# Altium schematic symbol library Mylib.SchLib: 94 symbols
Pins are listed as number, name and electrical type; pins without a type are passive.

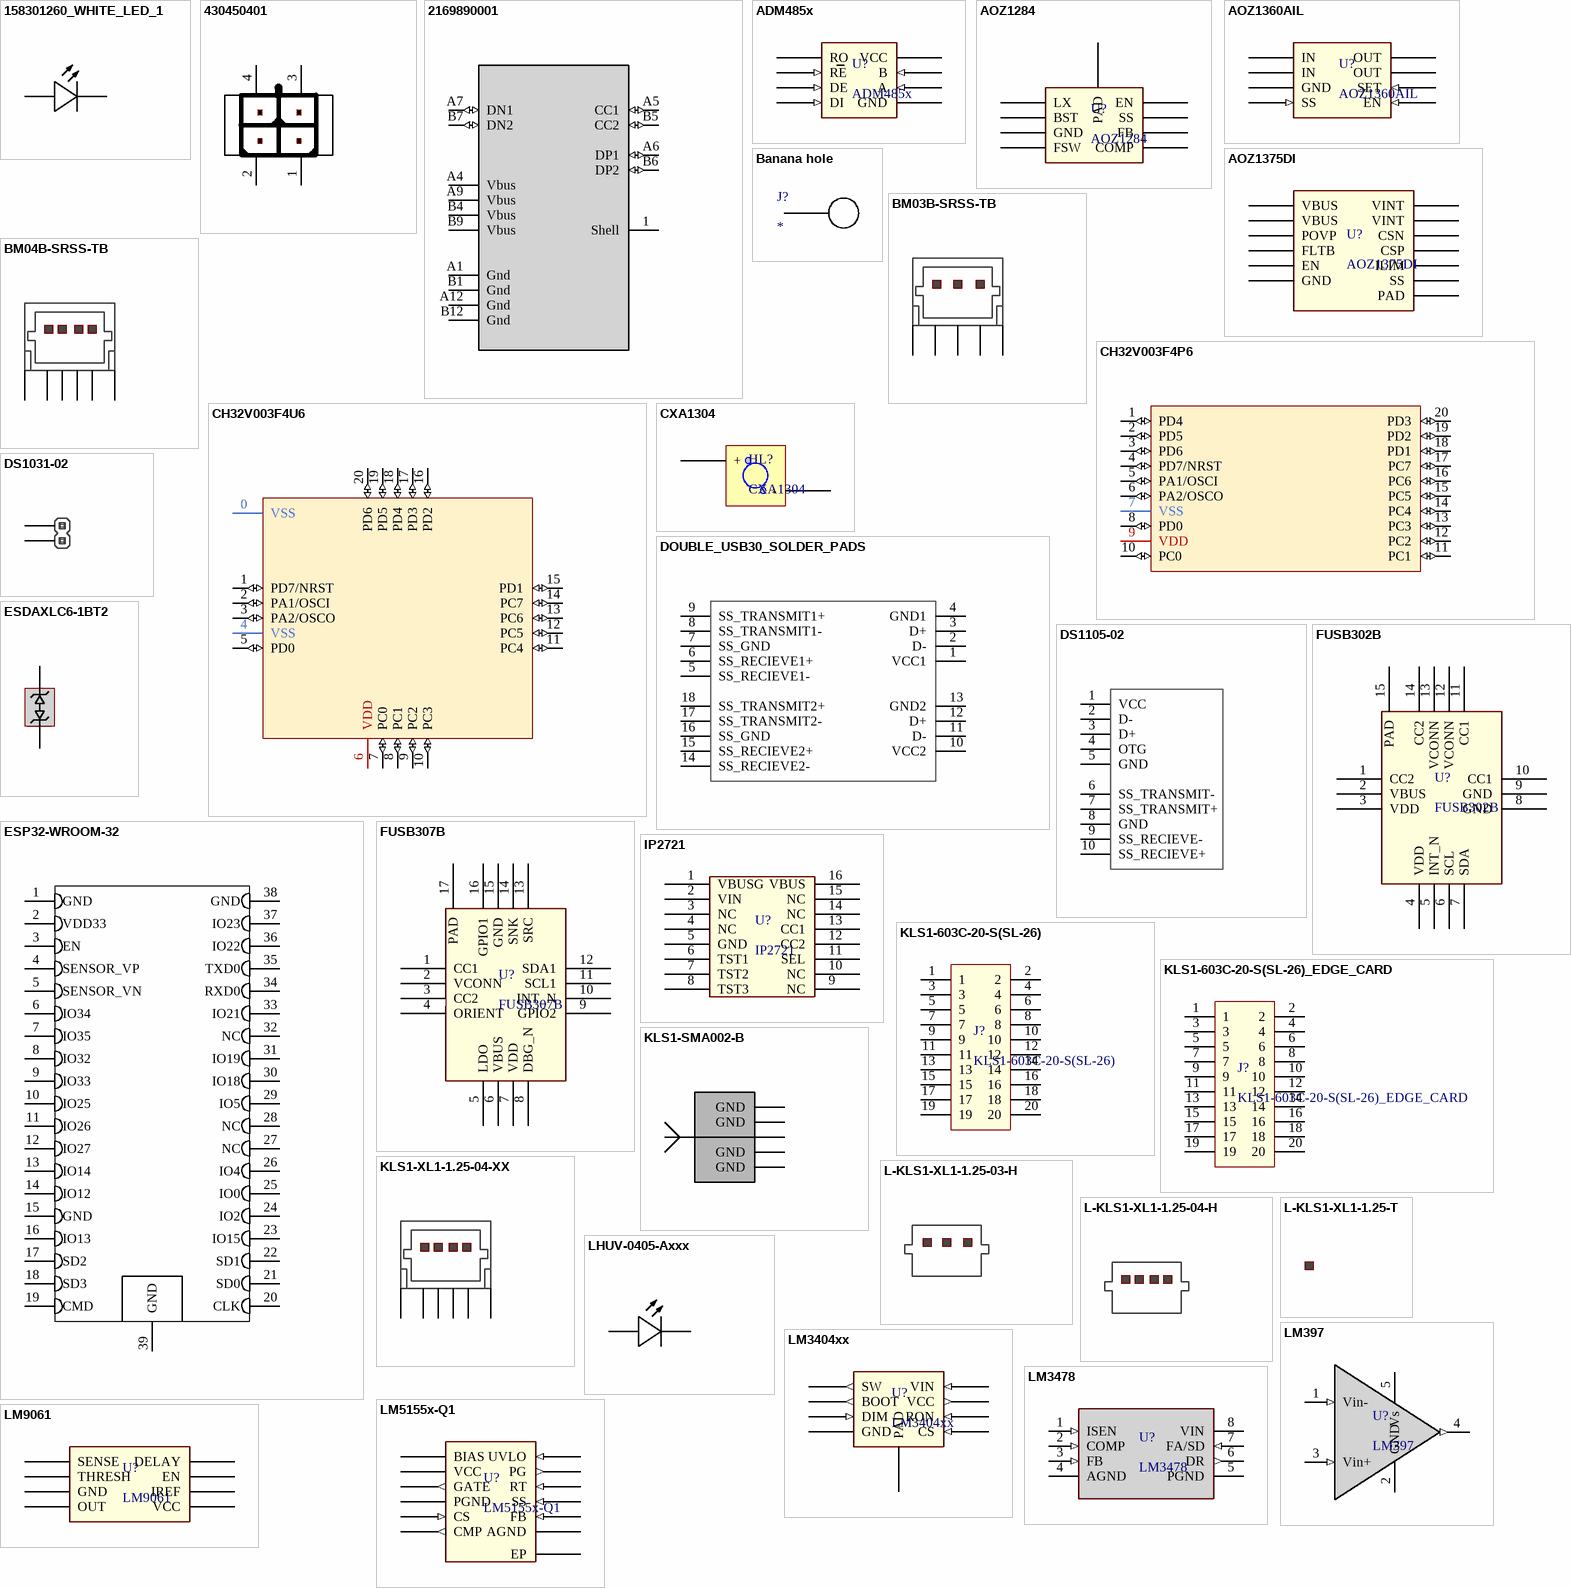
[diagram p0: symbols 158301260_WHITE_LED_1 to LM9061]

## 158301260_WHITE_LED_1
designator D?, comment 158301260
WL-SWTP SMT White Top view PLCC
footprint 158301260
pins: 1, 2

## 430450401
designator J?
Micro-Fit 3.0 Right-Angle Header, 3.00mm Pitch, Dual Row, 4 Circuits, with Snap-in
footprint 430450401
pins: 1, 2, 3, 4

## 2169890001
designator J?
footprint 216989-0001_MOL
pins: 1 Shell (power), A1 Gnd, A4 Vbus (power), A5 CC1 (io), A6 DP1 (io), A7 DN1 (io), A9 Vbus (power), A12 Gnd, B1 Gnd, B4 Vbus (power), B5 CC2 (io), B6 DP2 (io), B7 DN2 (io), B9 Vbus (power), B12 Gnd

## ADM485x
designator U?
RS-485 interface
footprint SOIC8(3.9) (SOIC, 8-Leads, Body 5,0x4,0mm (max), Pitch 1,27mm, IPC Medium Density)
pins: 1 RO (oc), 2 RE (in), 3 DE (in), 4 DI (in), 5 GND, 6 A (in), 7 B (in), 8 VCC (power)

## AOZ1284
designator U?
4A Simple Buck Regulator
footprint SO8_TermPad
pins: 1 LX, 2 BST, 3 GND, 4 FSW, 5 COMP, 6 FB, 7 SS, 8 EN, 9 PAD

## AOZ1360AIL
designator U?
28V Programmable Current-Limited Load Switch
footprint SO8
pins: 1 IN (power), 2 IN (power), 3 GND (power), 4 SS (in), 5 EN (in), 6 SET (in), 7 OUT (power), 8 OUT (power)

## AOZ1375DI
designator U?
23V 18mΩ Bidirectional Load Switch / with Over-Voltage and Over-Current Protection
footprint DFN3x3-12L
pins: 1 VBUS, 2 VBUS, 3 POVP, 4 FLTB, 5 EN, 6 GND, 7 SS, 8 ILIM, 9 CSP, 10 CSN, 11 VINT, 12 VINT, 13 PAD

## Banana hole
designator J?
Hole for banana conn 2 mm
footprint Banana hole (Hole for Banana conn 2mm)
pins: 1 0

## BM03B-SRSS-TB
designator J?
1mm pitch Disconnectable  Crimp style connectors
footprint BM03B-SRSS-TB
pins: 1, 2, 3, 4, 5

## BM04B-SRSS-TB
designator J?
1mm pitch Disconnectable  Crimp style connectors
footprint BM04B-SRSS-TB
pins: 1, 2, 3, 4, 5, 6

## CH32V003F4P6
designator U?
32-bit RISCV mcu
footprint TSSOP20 (TSSOP, 20-Leads, Body 6,50x4,40mm, Pitch 0,65mm, IPC Medium Density)
pins: 1 PD4 (io), 2 PD5 (io), 3 PD6 (io), 4 PD7/NRST (io), 5 PA1/OSCI (io), 6 PA2/OSCO (io), 7 VSS (power), 8 PD0 (io), 9 VDD (power), 10 PC0 (io), 11 PC1 (io), 12 PC2 (io), 13 PC3 (io), 14 PC4 (io), 15 PC5 (io), 16 PC6 (io), 17 PC7 (io), 18 PD1 (io), 19 PD2 (io), 20 PD3 (io)

## CH32V003F4U6
designator U?
32-bit RISCV mcu qfn
footprint QFN20_3x3
pins: 0 VSS (power), 1 PD7/NRST (io), 2 PA1/OSCI (io), 3 PA2/OSCO (io), 4 VSS (power), 5 PD0 (io), 6 VDD (power), 7 PC0 (io), 8 PC1 (io), 9 PC2 (io), 10 PC3 (io), 11 PC4 (io), 12 PC5 (io), 13 PC6 (io), 14 PC7 (io), 15 PD1 (io), 16 PD2 (io), 17 PD3 (io), 18 PD4 (io), 19 PD5 (io), 20 PD6 (io)

## CXA1304
designator HL?
China powerfull led
footprint CXA1512
pins: 1 + (power), 2 - (power)

## DOUBLE_USB30_SOLDER_PADS
designator J?
footprint DOUBLE_USB30_SOLDER_PADS
pins: 1 VCC1, 2 D-, 3 D+, 4 GND1, 5 SS_RECIEVE1-, 6 SS_RECIEVE1+, 7 SS_GND, 8 SS_TRANSMIT1-, 9 SS_TRANSMIT1+, 10 VCC2, 11 D-, 12 D+, 13 GND2, 14 SS_RECIEVE2-, 15 SS_RECIEVE2+, 16 SS_GND, 17 SS_TRANSMIT2-, 18 SS_TRANSMIT2+

## DS1031-02
designator U?
pls 1.27
footprint 1.27 HOLES - 2
pins: 1, 2

## DS1105-02
designator J?
footprint DS1105-02
pins: 1 VCC, 2 D-, 3 D+, 4 OTG, 5 GND, 6 SS_TRANSMIT-, 7 SS_TRANSMIT+, 8 GND, 9 SS_RECIEVE-, 10 SS_RECIEVE+

## ESDAXLC6-1BT2
designator ZD?
Single-line bidirectional ESD protection for high speed interface
footprint SOD882T (0402)
pins: 1 CATHODE, 2 CATHODE

## ESP32-WROOM-32
designator U?
ESP32-WROVER is a powerful, generic Wi-Fi + Bluetooth + Bluetooth LE MCU module that targets a wide / variety of applications, ranging from low-power sensor networks to the most demanding tasks, such as voice / encoding, music streaming and MP3 decoding.
footprint ESP32­WROVER
pins: 1 GND, 2 VDD33, 3 EN, 4 SENSOR_VP, 5 SENSOR_VN, 6 IO34, 7 IO35, 8 IO32, 9 IO33, 10 IO25, 11 IO26, 12 IO27, 13 IO14, 14 IO12, 15 GND, 16 IO13, 17 SD2, 18 SD3, 19 CMD, 20 CLK, 21 SD0, 22 SD1, 23 IO15, 24 IO2, 25 IO0, 26 IO4, 27 NC, 28 NC, 29 IO5, 30 IO18, 31 IO19, 32 NC, 33 IO21, 34 RXD0, 35 TXD0, 36 IO22, 37 IO23, 38 GND, 39 GND

## FUSB302B
designator U?
Ptogrammable USB Type-C Controller w/PD
footprint 14 lead MLP
pins: 1 CC2, 2 VBUS, 3 VDD, 4 VDD, 5 INT_N, 6 SCL, 7 SDA, 8 GND, 9 GND, 10 CC1, 11 CC1, 12 VCONN, 13 VCONN, 14 CC2, 15 PAD

## FUSB307B
designator U?
USB Type-C Port Controller / with USB-PD
footprint QFN16
pins: 1 CC1, 2 VCONN, 3 CC2, 4 ORIENT, 5 LDO, 6 VBUS, 7 VDD, 8 DBG_N, 9 GPIO2, 10 INT_N, 11 SCL1, 12 SDA1, 13 SRC, 14 SNK, 15 GND, 16 GPIO1, 17 PAD

## IP2721
designator U?
TYPEC/PD2.0/PD3.0 Physical Layer IC for USB TYPEC input Interfaces
footprint TSSOP16 (TSSOP, 16-Leads, Body 5,00x4,40mm, Pitch 0,65mm, IPC Medium Density)
pins: 1 VBUSG, 2 VIN, 3 NC, 4 NC, 5 GND, 6 TST1, 7 TST2, 8 TST3, 9 NC, 10 NC, 11 SEL, 12 CC2, 13 CC1, 14 NC, 15 NC, 16 VBUS

## KLS1-603C-20-S(SL-26)
designator J?
EDGE CARD SLOT 2.54mm Connector Straight Pin Type
footprint KLS1-603C-20-S(SL-26) (EDGE CARD SLOT 2.54mm Connector Straight Pin Type)
pins: 1, 2, 3, 4, 5, 6, 7, 8, 9, 10, 11, 12, 13, 14, 15, 16, 17, 18, 19, 20

## KLS1-603C-20-S(SL-26)_EDGE_CARD
designator J?
EDGE CARD SLOT 2.54mm Connector Straight Pin Type
footprint KLS1-603C-20-S(SL-26)_EDGE_CARD (EDGE CARD SLOT 2.54mm Connector Straight Pin Type)
pins: 1, 2, 3, 4, 5, 6, 7, 8, 9, 10, 11, 12, 13, 14, 15, 16, 17, 18, 19, 20

## KLS1-SMA002-B
designator J?
SMA RP
footprint SMA_RP
pins: 1, 2 GND, 3 GND, 4 GND, 5 GND

## KLS1-XL1-1.25-04-XX
designator J?
Pitch=1.25mm / analog Molex_053261-0471
footprint KLS1-XL1-1.25--04-RM
pins: 1, 2, 3, 4, 5, 6

## L-KLS1-XL1-1.25-03-H
designator SubPart?
1.25 housing
footprint l-kls1-xl1-1.25-03-h

## L-KLS1-XL1-1.25-04-H
designator SubPart?
1.25 housing / analog DS1020-03-04FV (CONNFLY)
footprint l-kls1-xl1-1.25-04-h

## L-KLS1-XL1-1.25-T
designator SubPart?
pin terminal 1.25 female
footprint L-KLS1-XL1-1.25-T (KLS)

## LHUV-0405-Axxx
designator D?
UV led
footprint LHUV-0405
pins: 1, 2

## LM397
designator U?
Single General-Purpose Voltage Comparator
footprint SOT23-5 (SOT23, 5-Leads, Body 3,0x2,8mm (max), Pitch 0,95mm, IPC Medium Density)
pins: 1 Vin- (in), 2 GND (power), 3 Vin+ (in), 4 30 (out), 5 Vs (power)

## LM3404xx
designator U?
1-A Constant Current Buck Regulator for Driving High Power LEDs
footprint SO8_TermPad
pins: 1 SW (out), 2 BOOT (out), 3 DIM (in), 4 GND (power), 5 CS (in), 6 RON (in), 7 VCC (out), 8 VIN (in), 9 PAD (power)

## LM3478
designator U?
High-Efficiency Low-Side N-Channel Controller for Switching Regulator
footprint SOIC-8 D
pins: 1 ISEN (in), 2 COMP (in), 3 FB (in), 4 AGND (power), 5 PGND (power), 6 DR (out), 7 FA/SD (in), 8 VIN (power)

## LM5155x-Q1
designator U?
2.2-MHz Wide Input Nonsynchronous Boost, SEPIC, Flyback Controller
footprint WSON12
pins: 1 BIAS (power), 2 VCC (power), 3 GATE (out), 4 PGND (power), 5 CS (in), 6 CMP (out), 7 AGND (power), 8 FB (in), 9 SS (in), 10 RT (in), 11 PG (out), 12 UVLO (in), 13 EP (power)

## LM9061
designator U?
High-Side Protection Controller
footprint SOIC-8 D
pins: 1 SENSE, 2 THRESH, 3 GND, 4 OUT, 5 VCC, 6 IREF, 7 EN, 8 DELAY

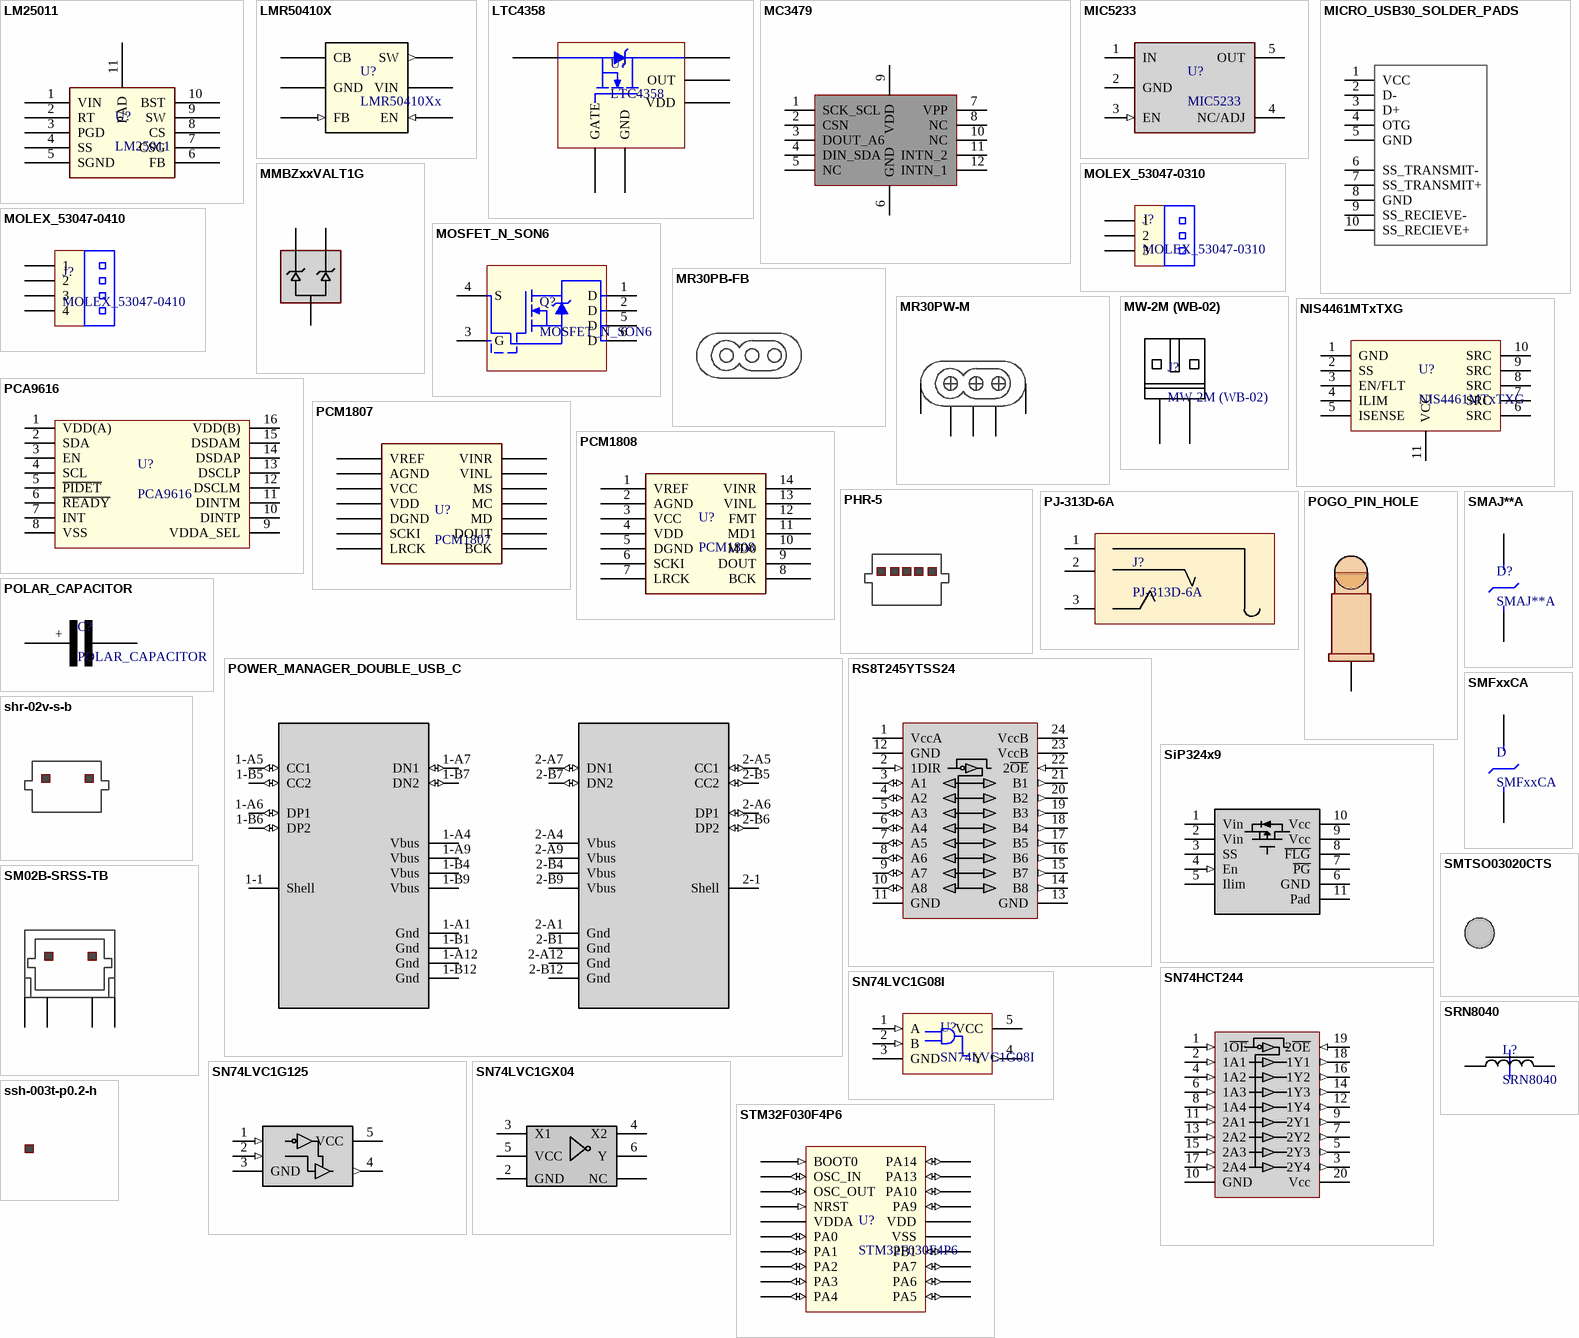
[diagram p1: symbols LM25011 to STM32F030F4P6]

## LM25011
designator U?
Constant On-Time Switching / Regulator With Adjustable Current Limit
footprint HVSSOP-10
pins: 1 VIN, 2 RT, 3 PGD, 4 SS, 5 SGND, 6 FB, 7 CSG, 8 CS, 9 SW, 10 BST, 11 PAD

## LMR50410X
designator U?, comment LMR50410Xx
SIMPLE SWITCHER® 4-V to 36-V, 1-A Buck Converter in SOT-23-6 Package
footprint SOT23-6
pins: 1 CB (power), 2 GND, 3 FB (in), 4 EN (in), 5 VIN (power), 6 SW (out)

## LTC4358
designator U?
5A Ideal Diode
footprint HTSSOP-16; pin to pad 1>1+2+3+4+12+13+14+15+16
pins: 1 IN, 6 GATE, 8 GND, 9 VDD, 10 OUT, 17 DRAIN

## MC3479
designator U?, comment MC3479-P
3-Axis Accelerometer
footprint LGA12_2x2 (LGA, 12-Leads, Body 2,00x2,00mmx1,00mm, Pitch 0,50mm)
pins: 1 SCK_SCL, 2 CSN, 3 DOUT_A6, 4 DIN_SDA, 5 NC, 6 GND, 7 VPP, 8 NC, 9 VDD, 10 NC, 11 INTN_2, 12 INTN_1

## MIC5233
designator U?
High Input Voltage, Low IQ µCap LDO Regulator
footprint SOT23-5 (SOT23, 5-Leads, Body 3,0x2,8mm (max), Pitch 0,95mm, IPC Medium Density)
pins: 1 IN (power), 2 GND (power), 3 EN (in), 4 NC/ADJ, 5 OUT (power)

## MICRO_USB30_SOLDER_PADS
designator J?
footprint MICRO_USB30_SOLDER_PADS
pins: 1 VCC, 2 D-, 3 D+, 4 OTG, 5 GND, 6 SS_TRANSMIT-, 7 SS_TRANSMIT+, 8 GND, 9 SS_RECIEVE-, 10 SS_RECIEVE+

## MMBZxxVALT1G
designator ZD?
24 and 40 Watt Peak Power / Zener Transient Voltage / Suppressors
footprint SOT23 (SOT23, 3-Leads, Body 3,0x2,5mm (max), Pitch 0,95mm, IPC Medium Density)
pins: 1 CATHODE, 2 CATHODE, 3 ANODE

## MOLEX_53047-0310
designator J?
1.25mm (.049") Pitch / Wire-to-Board / Header
footprint MOLEX_530470310
pins: 1, 2, 3

## MOLEX_53047-0410
designator J?
1.25mm (.049") Pitch / Wire-to-Board / Header
footprint MOLEX_530470410
pins: 1, 2, 3, 4

## MOSFET_N_SON6
designator Q?
footprint SON6
pins: 1 D, 2 D, 3 G, 4 S, 5 D, 6 D

## MR30PB-FB
designator J?
30A 3 pin housing
footprint MR30PB-FB

## MR30PW-M
designator J?
30A 3 pin connector
footprint MR30PW-M
pins: 1, 2, 3, 4 SH, 4 SH

## MW-2M (WB-02)
designator J?
2mm 2pin
footprint DS1066-02M(MW-2M)
footprint DS1066-02MRW6X-A
pins: 1, 2

## NIS4461MTxTXG
designator U?
9 to 24 Volt Electronic Fuse
footprint WDFN10
pins: 1 GND, 2 SS, 3 EN/FLT, 4 ILIM, 5 ISENSE, 6 SRC, 7 SRC, 8 SRC, 9 SRC, 10 SRC, 11 VCC

## PCA9616
designator U?
3-channel multipoint Fm+ dI2C-bus buffer with hot-swap logic
footprint TSSOP16 (TSSOP, 16-Leads, Body 5,00x4,40mm, Pitch 0,65mm, IPC Medium Density)
pins: 1 VDD(A), 2 SDA, 3 EN, 4 SCL, 5 ~{PIDET}, 6 ~{READY}, 7 INT, 8 VSS, 9 VDDA_SEL, 10 DINTP, 11 DINTM, 12 DSCLM, 13 DSCLP, 14 DSDAP, 15 DSDAM, 16 VDD(B)

## PCM1807
designator U?
Single-Ended, Analog-Input 24-Bit, 96-kHz Stereo A/D Converter
footprint TSSOP14 (TSSOP 14: plastic thin shrink small outline package; 14 leads; body width 4.4 mm)
pins: 1 VREF, 2 AGND, 3 VCC, 4 VDD, 5 DGND, 6 SCKI, 7 LRCK, 8 BCK, 9 DOUT, 10 MD, 11 MC, 12 MS, 13 VINL, 14 VINR

## PCM1808
designator U?
Single-Ended, Analog-Input 24-Bit, 96-kHz Stereo A/D Converter
footprint TSSOP14 (TSSOP 14: plastic thin shrink small outline package; 14 leads; body width 4.4 mm)
pins: 1 VREF, 2 AGND, 3 VCC, 4 VDD, 5 DGND, 6 SCKI, 7 LRCK, 8 BCK, 9 DOUT, 10 MD0, 11 MD1, 12 FMT, 13 VINL, 14 VINR

## PHR-5
designator SubPart?
2.00 housing
footprint PHR-5

## PJ-313D-6A
designator J?
3.5 stereo jack
footprint PJ-313D-6A
pins: 1, 2, 3

## POGO_PIN_HOLE
designator J?
footprint POGO_PIN_HOLE
pins: 1

## POLAR_CAPACITOR
designator C?
footprint ALUMINIUM_CAP_G
footprint CAP_ECAP(K50-35)TK35x50
pins: 1, 2 30
text: +

## POWER_MANAGER_DOUBLE_USB_C
designator U?
footprint POWER_MANAGER_DOUBLE_USB_C_PANEL
pins: 1-1 Shell (power), 1-A1 Gnd, 1-A4 Vbus (power), 1-A5 CC1 (io), 1-A6 DP1 (io), 1-A7 DN1 (io), 1-A9 Vbus (power), 1-A12 Gnd, 1-B1 Gnd, 1-B4 Vbus (power), 1-B5 CC2 (io), 1-B6 DP2 (io), 1-B7 DN2 (io), 1-B9 Vbus (power), 1-B12 Gnd, 2-1 Shell (power), 2-A1 Gnd, 2-A4 Vbus (power), 2-A5 CC1 (io), 2-A6 DP1 (io), 2-A7 DN1 (io), 2-A9 Vbus (power), 2-A12 Gnd, 2-B1 Gnd, 2-B4 Vbus (power), 2-B5 CC2 (io), 2-B6 DP2 (io), 2-B7 DN2 (io), 2-B9 Vbus (power), 2-B12 Gnd

## RS8T245YTSS24
designator U?
8-Bit Dual-Supply Bus Transceiver with Configurable / Voltage Translation and 3-State Output
footprint TSSOP24
pins: 1 VccA (power), 2 1DIR (in), 3 A1 (io), 4 A2 (io), 5 A3 (io), 6 A4 (io), 7 A5 (io), 8 A6 (io), 9 A7 (io), 10 A8 (io), 11 GND (power), 12 GND (power), 13 GND (power), 14 B8 (out), 15 B7 (out), 16 B6 (out), 17 B5 (out), 18 B4 (out), 19 B3 (out), 20 B2 (out), 21 B1 (out), 22 2~{OE} (in), 23 VccB (power), 24 VccB (power)

## shr-02v-s-b
designator SubPart?
footprint shr-02v-s-b

## SiP324x9
designator U?
28 V, 56 mΩ, Load Switch with Programmable Current Limit and / Slew Rate Control
footprint DFN10
pins: 1 Vin (power), 2 Vin (power), 3 SS, 4 En (in), 5 Ilim, 6 GND (power), 7 ~{PG} (oc), 8 ~{FLG} (oc), 9 Vcc (power), 10 Vcc (power), 11 Pad

## SM02B-SRSS-TB
designator J?
1mm pitch Disconnectable  Crimp style connectors
footprint SM02B-SRSS-TB
footprint BM02B-SRSS-TB
pins: 1, 2, 3, 4

## SMAJ**A
designator D?
Transient Voltage Suppressor Diode Series
footprint DO-214AC(SMA)
pins: 1 Electrode1, 2 Electrode2

## SMFxxCA
designator D
TVS Diodes 200W
footprint SOD-123FL
pins: 1 Electrode1, 2 Electrode2

## SMTSO03020CTS
designator SubPart?
solder screw m3
footprint SMTSO03020CTS

## SN74HCT244
designator U?
SNx4HCT244 Octal Buffers and Line Drivers With 3-State Outputs
footprint TSSOP20 (TSSOP, 20-Leads, Body 6,50x4,40mm, Pitch 0,65mm, IPC Medium Density)
pins: 1 1~{OE} (in), 2 1A1 (in), 3 2Y4 (out), 4 1A2 (in), 5 2Y3 (out), 6 1A3 (in), 7 2Y2 (out), 8 1A4 (in), 9 2Y1 (out), 10 GND (power), 11 2A1 (in), 12 1Y4 (out), 13 2A2 (in), 14 1Y3 (out), 15 2A3 (in), 16 1Y2 (out), 17 2A4 (in), 18 1Y1 (out), 19 2~{OE} (in), 20 Vcc (power)

## SN74LVC1G08I
designator U?
Single 2-input positive-AND gate
footprint SC70-5
footprint SOT23-5 (SOT23, 5-Leads, Body 3,0x2,8mm (max), Pitch 0,95mm, IPC Medium Density)
pins: 1 A (in), 2 B (in), 3 GND (power), 4 Y (out), 5 VCC (power)

## SN74LVC1G125
designator U?
Single Bus Buffer Gate With 3-State Output
footprint SC70-5
footprint SOT23-5 (SOT23, 5-Leads, Body 3,0x2,8mm (max), Pitch 0,95mm, IPC Medium Density)
pins: 1 ~{OE} (in), 2 A (in), 3 GND (power), 4 Y (out), 5 VCC (power)

## SN74LVC1GX04
designator U?
Crystal Oscillator Driver
footprint SOT23-6
pins: 1 NC, 2 GND, 3 X1, 4 X2, 5 VCC, 6 Y

## SRN8040
designator L?
Power inductor
footprint SRN8040
pins: 1, 2

## ssh-003t-p0.2-h
designator SubPart?
pin terminal 1.25 female
footprint ssh-003t-p0.2-h

## STM32F030F4P6
designator U?
STM32 MCU
footprint TSSOP20 (TSSOP, 20-Leads, Body 6,50x4,40mm, Pitch 0,65mm, IPC Medium Density)
pins: 1 BOOT0 (in), 2 OSC_IN (io), 3 OSC_OUT (io), 4 NRST (in), 5 VDDA (power), 6 PA0 (io), 7 PA1 (io), 8 PA2 (io), 9 PA3 (io), 10 PA4 (io), 11 PA5 (io), 12 PA6 (io), 13 PA7 (io), 14 PB1 (io), 15 VSS (power), 16 VDD (power), 17 PA9 (io), 18 PA10 (io), 19 PA13 (io), 20 PA14 (io)

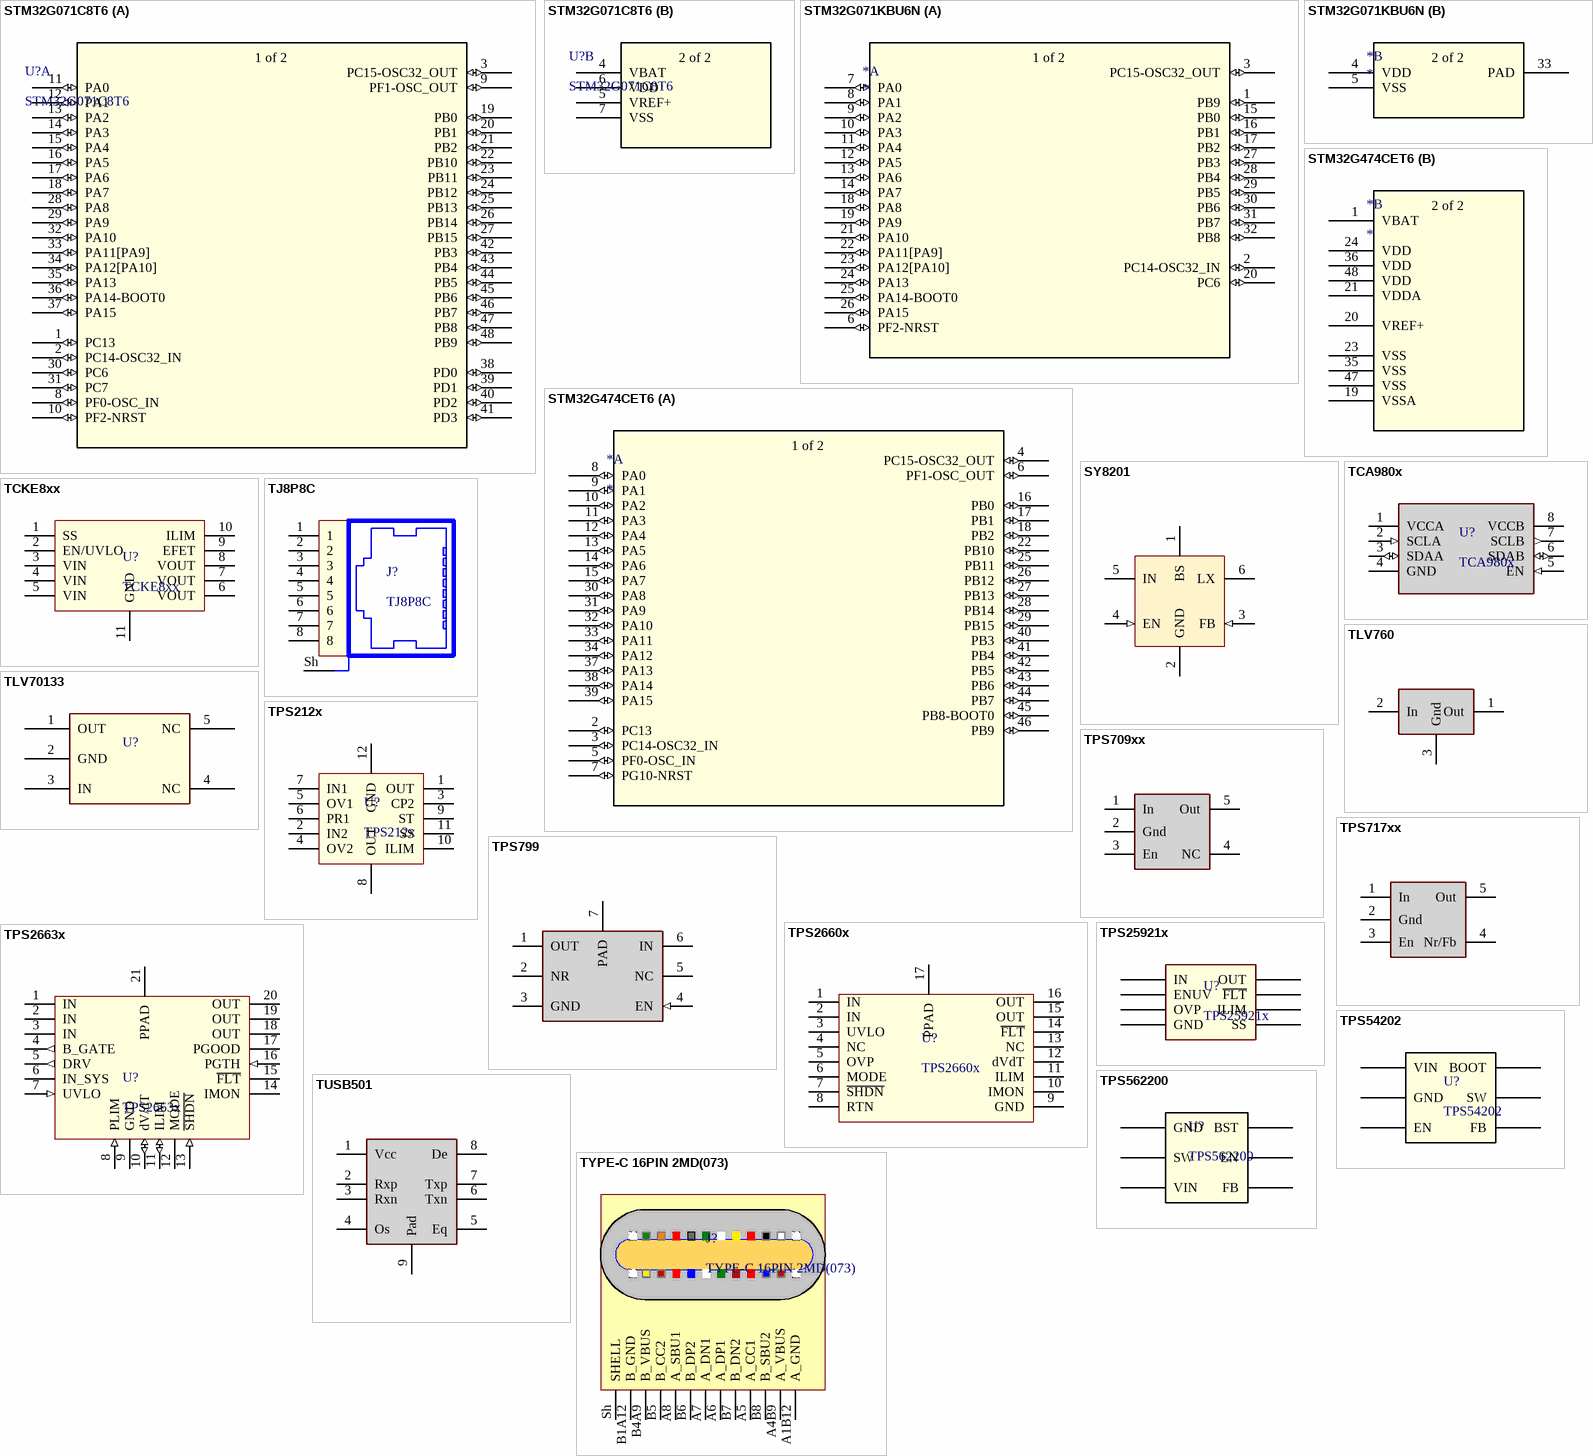
[diagram p2: symbols STM32G071C8T6 to TYPE-C 16PIN 2MD(073)]

## STM32G071C8T6
designator U?
ARM-based 32-bit MCU; SourceLibrary: Updates_to_database_2020-10-19; Built_By: EMA_UL_Team; Vendor: STMicroelectronics; Copyright: Copyright (C) 2018 Accelerated Designs. All rights reserved; Manufacturer_Part_Number: STM32G071C8T6; RefDes: RefDes; Type: DEV
footprint LQFP-48
part A pins: 1 PC13 (io), 2 PC14-OSC32_IN (io), 3 PC15-OSC32_OUT (io), 8 PF0-OSC_IN (io), 9 PF1-OSC_OUT (io), 10 PF2-NRST (io), 11 PA0 (io), 12 PA1 (io), 13 PA2 (io), 14 PA3 (io), 15 PA4 (io), 16 PA5 (io), 17 PA6 (io), 18 PA7 (io), 19 PB0 (io), 20 PB1 (io), 21 PB2 (io), 22 PB10 (io), 23 PB11 (io), 24 PB12 (io), 25 PB13 (io), 26 PB14 (io), 27 PB15 (io), 28 PA8 (io), 29 PA9 (io), 30 PC6 (io), 31 PC7 (io), 32 PA10 (io), 33 PA11[PA9] (io), 34 PA12[PA10] (io), 35 PA13 (io), 36 PA14-BOOT0 (io), 37 PA15 (io), 38 PD0 (io), 39 PD1 (io), 40 PD2 (io), 41 PD3 (io), 42 PB3 (io), 43 PB4 (io), 44 PB5 (io), 45 PB6 (io), 46 PB7 (io), 47 PB8 (io), 48 PB9 (io)
part B pins: 4 VBAT (power), 5 VREF+ (power), 6 VDD (power), 7 VSS (power)
part A text: 1 of 2
part B text: 2 of 2

## STM32G071KBU6N
designator *
footprint UFQFPN-32
part A pins: 1 PB9 (io), 2 PC14-OSC32_IN (io), 3 PC15-OSC32_OUT (io), 6 PF2-NRST (io), 7 PA0 (io), 8 PA1 (io), 9 PA2 (io), 10 PA3 (io), 11 PA4 (io), 12 PA5 (io), 13 PA6 (io), 14 PA7 (io), 15 PB0 (io), 16 PB1 (io), 17 PB2 (io), 18 PA8 (io), 19 PA9 (io), 20 PC6 (io), 21 PA10 (io), 22 PA11[PA9] (io), 23 PA12[PA10] (io), 24 PA13 (io), 25 PA14-BOOT0 (io), 26 PA15 (io), 27 PB3 (io), 28 PB4 (io), 29 PB5 (io), 30 PB6 (io), 31 PB7 (io), 32 PB8 (io)
part B pins: 4 VDD (power), 5 VSS (power), 33 PAD
part A text: 1 of 2
part B text: 2 of 2

## STM32G474CET6
designator *
footprint LQFP48-7x7mm
part A pins: 2 PC13 (io), 3 PC14-OSC32_IN (io), 4 PC15-OSC32_OUT (io), 5 PF0-OSC_IN (io), 6 PF1-OSC_OUT (io), 7 PG10-NRST (io), 8 PA0 (io), 9 PA1 (io), 10 PA2 (io), 11 PA3 (io), 12 PA4 (io), 13 PA5 (io), 14 PA6 (io), 15 PA7 (io), 16 PB0 (io), 17 PB1 (io), 18 PB2 (io), 22 PB10 (io), 25 PB11 (io), 26 PB12 (io), 27 PB13 (io), 28 PB14 (io), 29 PB15 (io), 30 PA8 (io), 31 PA9 (io), 32 PA10 (io), 33 PA11 (io), 34 PA12 (io), 37 PA13 (io), 38 PA14 (io), 39 PA15 (io), 40 PB3 (io), 41 PB4 (io), 42 PB5 (io), 43 PB6 (io), 44 PB7 (io), 45 PB8-BOOT0 (io), 46 PB9 (io)
part B pins: 1 VBAT (power), 19 VSSA (power), 20 VREF+ (power), 21 VDDA (power), 23 VSS (power), 24 VDD (power), 35 VSS (power), 36 VDD (power), 47 VSS (power), 48 VDD (power)
part A text: 1 of 2
part B text: 2 of 2

## SY8201
designator U?
High Efficiency Fast Response, 1A, 27V Input / Synchronous Step Down Regulator
footprint SOT23-6
pins: 1 BS (power), 2 GND (power), 3 FB (in), 4 EN (in), 5 IN (power), 6 LX (power)

## TCA980x
designator U?
Level-TranslatingI2C Bus Buffer/Repeater
footprint SSOP8
pins: 1 VCCA (power), 2 SCLA (in), 3 SDAA (io), 4 GND (power), 5 EN (in), 6 SDAB (io), 7 SCLB (out), 8 VCCB (power)

## TCKE8xx
designator U?
18 V, 5A eFuse IC with Adjustable Overcurrent Protection and Reverse / Current Blocking FET Control
footprint WSON10B
pins: 1 SS, 2 EN/UVLO, 3 VIN, 4 VIN, 5 VIN, 6 VOUT, 7 VOUT, 8 VOUT, 9 EFET, 10 ILIM, 11 GND

## TJ8P8C
designator J?
RJ-45 connector
footprint TJ8P8C
pins: 1, 2, 3, 4, 5, 6, 7, 8, Sh

## TLV760
designator U?
footprint SOT23 (SOT23, 3-Leads, Body 3,0x2,5mm (max), Pitch 0,95mm, IPC Medium Density)
pins: 1 Out, 2 In, 3 Gnd

## TLV70133
designator U?
LDO 3.3V
footprint SOT23-5 (SOT23, 5-Leads, Body 3,0x2,8mm (max), Pitch 0,95mm, IPC Medium Density)
pins: 1 OUT, 2 GND, 3 IN, 4 NC, 5 NC

## TPS212x
designator U?
2.8-V to 22-V Priority Power MUX with Seamless Switchover
footprint VQFN-HR12
pins: 1 OUT, 2 IN2, 3 CP2, 4 OV2, 5 OV1, 6 PR1, 7 IN1, 8 OUT, 9 ST, 10 ILIM, 11 SS, 12 GND

## TPS709xx
designator U?
150-mA, 30-V, 1-µA IQ Voltage Regulators with Enable
footprint SOT23-5 (SOT23, 5-Leads, Body 3,0x2,8mm (max), Pitch 0,95mm, IPC Medium Density)
pins: 1 In, 2 Gnd, 3 En, 4 NC, 5 Out

## TPS717xx
designator U?, comment TPS71718DCKT
Low-Noise, High-Bandwidth PSRR, Low-Dropout, 150-mA Linear Regulator
footprint SC70-5
pins: 1 In, 2 Gnd, 3 En, 4 Nr/Fb, 5 Out

## TPS799
designator U?, comment TPS79933
Low-Quiescent Current, Ultralow Noise, High-PSRR Low-Dropout Linear / Regulator
footprint WSON-6
pins: 1 OUT (power), 2 NR (power), 3 GND (power), 4 EN (in), 5 NC (power), 6 IN (power), 7 PAD (power)

## TPS2660x
designator U?
60-V, 2-A Industrial eFuse With Integrated Reverse Input Polarity Protection
footprint HTSSOP-16
pins: 1 IN, 2 IN, 3 UVLO, 4 NC, 5 OVP, 6 MODE, 7 ~{SHDN}, 8 RTN, 9 GND, 10 IMON, 11 ILIM, 12 dVdT, 13 NC, 14 ~{FLT}, 15 OUT, 16 OUT, 17 PPAD

## TPS2663x
designator U?
60-V, 6-A Power Limiting, Surge Protection Industrial eFuse
footprint HTSSOP-20 PowerPad
pins: 1 IN (power), 2 IN (power), 3 IN (power), 4 B_GATE (out), 5 DRV (out), 6 IN_SYS (power), 7 UVLO (in), 8 PLIM (in), 9 GND, 10 dV/dT (io), 11 ILIM (io), 12 MODE (oc), 13 ~{SHDN} (in), 14 IMON (oc), 15 ~{FLT} (oc), 16 PGTH (in), 17 PGOOD (oc), 18 OUT (power), 19 OUT (power), 20 OUT (power), 21 PPAD

## TPS25921x
designator U?
4.5V - 18V eFuse with Precise Current Limit and Over Voltage Protection
footprint SOIC8(3.9) (SOIC, 8-Leads, Body 5,0x4,0mm (max), Pitch 1,27mm, IPC Medium Density)
pins: 1 GND, 2 SS, 3 ENUV, 5 OUT, 5 IN, 6 ~{FLT}, 7 ILIM, 8 OVP

## TPS54202
designator U?
4.5-V to 28-V Input, 2-A Output, EMI Friendly / Synchronous Step Down Converter
footprint SOT23-6
pins: 1 GND, 2 SW (power), 3 VIN (power), 4 FB, 5 EN, 6 BOOT

## TPS562200
designator U?
Buck converter 2A up to 17V
footprint SOT23-6
pins: 1 GND (power), 2 SW (power), 3 VIN (power), 4 FB, 5 EN, 6 BST

## TUSB501
designator U?
USB 3.0 Single-Channel Redriver with Equalization
footprint WSON-8 DRF
pins: 1 Vcc, 2 Rxp, 3 Rxn, 4 Os, 5 Eq, 6 Txn, 7 Txp, 8 De, 9 Pad

## TYPE-C 16PIN 2MD(073)
designator J?
china type-c connector
footprint TYPE-C 16PIN 2MD(073)
footprint TYPE-C-31-M-31
pins: A1B12 A_GND, A4B9 A_VBUS, A5 A_CC1, A6 A_DP1, A7 A_DN1, A8 A_SBU1, B1A12 B_GND, B4A9 B_VBUS, B5 B_CC2, B6 B_DP2, B7 B_DN2, B8 B_SBU2, Sh SHELL

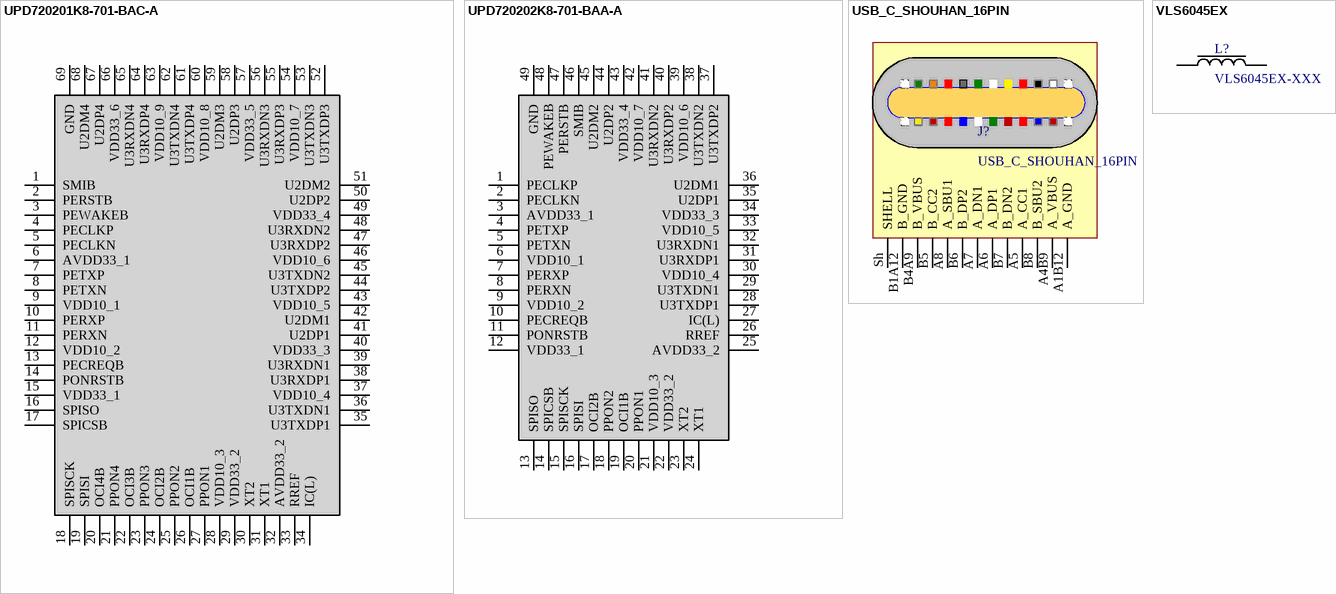
[diagram p3: symbols UPD720201K8-701-BAC-A to VLS6045EX]

## UPD720201K8-701-BAC-A
designator U?
USB3.0 HOST CONTROLLER
footprint QFN40P800X800X90-69N-D
pins: 1 SMIB, 2 PERSTB, 3 PEWAKEB, 4 PECLKP, 5 PECLKN, 6 AVDD33_1, 7 PETXP, 8 PETXN, 9 VDD10_1, 10 PERXP, 11 PERXN, 12 VDD10_2, 13 PECREQB, 14 PONRSTB, 15 VDD33_1, 16 SPISO, 17 SPICSB, 18 SPISCK, 19 SPISI, 20 OCI4B, 21 PPON4, 22 OCI3B, 23 PPON3, 24 OCI2B, 25 PPON2, 26 OCI1B, 27 PPON1, 28 VDD10_3, 29 VDD33_2, 30 XT2, 31 XT1, 32 AVDD33_2, 33 RREF, 34 IC(L), 35 U3TXDP1, 36 U3TXDN1, 37 VDD10_4, 38 U3RXDP1, 39 U3RXDN1, 40 VDD33_3, 41 U2DP1, 42 U2DM1, 43 VDD10_5, 44 U3TXDP2, 45 U3TXDN2, 46 VDD10_6, 47 U3RXDP2, 48 U3RXDN2, 49 VDD33_4, 50 U2DP2, 51 U2DM2, 52 U3TXDP3, 53 U3TXDN3, 54 VDD10_7, 55 U3RXDP3, 56 U3RXDN3, 57 VDD33_5, 58 U2DP3, 59 U2DM3, 60 VDD10_8, 61 U3TXDP4, 62 U3TXDN4, 63 VDD10_9, 64 U3RXDP4, 65 U3RXDN4, 66 VDD33_6, 67 U2DP4, 68 U2DM4, 69 GND

## UPD720202K8-701-BAA-A
designator U?
USB3.0 HOST CONTROLLER
pins: 1 PECLKP, 2 PECLKN, 3 AVDD33_1, 4 PETXP, 5 PETXN, 6 VDD10_1, 7 PERXP, 8 PERXN, 9 VDD10_2, 10 PECREQB, 11 PONRSTB, 12 VDD33_1, 13 SPISO, 14 SPICSB, 15 SPISCK, 16 SPISI, 17 OCI2B, 18 PPON2, 19 OCI1B, 20 PPON1, 21 VDD10_3, 22 VDD33_2, 23 XT2, 24 XT1, 25 AVDD33_2, 26 RREF, 27 IC(L), 28 U3TXDP1, 29 U3TXDN1, 30 VDD10_4, 31 U3RXDP1, 32 U3RXDN1, 33 VDD10_5, 34 VDD33_3, 35 U2DP1, 36 U2DM1, 37 U3TXDP2, 38 U3TXDN2, 39 VDD10_6, 40 U3RXDP2, 41 U3RXDN2, 42 VDD10_7, 43 VDD33_4, 44 U2DP2, 45 U2DM2, 46 SMIB, 47 PERSTB, 48 PEWAKEB, 49 GND

## USB_C_SHOUHAN_16PIN
designator J?
footprint SHOU HAN TYPE-C 16PIN 2MD(073)
pins: A1B12 A_GND, A4B9 A_VBUS, A5 A_CC1, A6 A_DP1, A7 A_DN1, A8 A_SBU1, B1A12 B_GND, B4A9 B_VBUS, B5 B_CC2, B6 B_DP2, B7 B_DN2, B8 B_SBU2, Sh SHELL

## VLS6045EX
designator L?, comment VLS6045EX-XXX
power inductor
footprint VLS6045EX (Inductor)
pins: 1, 2